# Altium schematic symbol library PMEG2005AEA_115.SCHLIB: 1 symbol
Pins are listed as number, name and electrical type; pins without a type are passive.

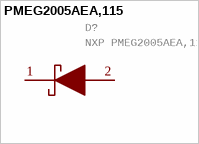
[diagram p0: symbol PMEG2005AEA,115]

## PMEG2005AEA,115
designator D?, comment NXP PMEG2005AEA,115, SMT Schottky Diode, 20V 500mA, 2-Pin SOD-323   Source:  Datasheet
Manufacturer_Name: Nexperia; GateName_1: G$1; SymbolName_1: PMEG2005AEA,115; LibraryName: PMEG2005AEA_115; DeviceSetName: PMEG2005AEA,115; Package: SOD2512X110N; Manufacturer_Part_Number: PMEG2005AEA,115; Mouser_Part_Number: 771-PMEG2005AEA115; Mouser_Price-Stock: https://www.mouser.co.uk/ProductDetail/Nexperia/PMEG2005AEA115?qs=LOCUfHb8d9v8DU9iEgA%252BhA%3D%3D; Arrow_Part_Number: PMEG2005AEA,115; Arrow_Price-Stock: https://www.arrow.com/en/products/pmeg2005aea115/nexperia; Description: NXP PMEG2005AEA,115, SMT Schottky Diode, 20V 500mA, 2-Pin SOD-323; Height: 1.1mm
footprint SOD2512X110N
pins: 1 K (io), 2 A (io)